# Altium integrated library Infineon_Transistor_&_Diode.IntLib: 376 symbols (part 9 of 10)
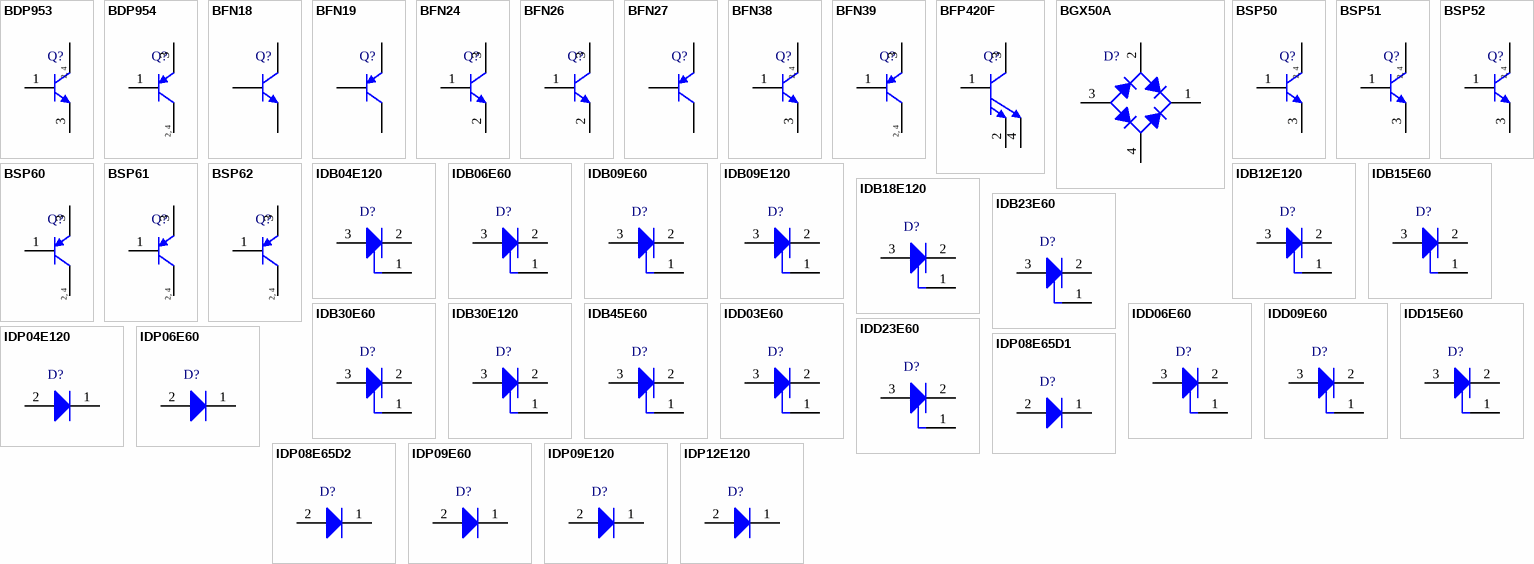
[diagram p18: symbols BDP953 to IDP12E120]

## BSP62
designator Q?
PNP Silicon Darlington Transistor, 80 V VCEO, 1000 mA IC, SOT223, Reel, Green; Manufacturer: Infineon; PartNumber: BSP62; fT (typ): 200 MHz; Green: TRUE; hFE (min): 1000; IC: 500 mA; IC (max): 1,000 mA; ICM (max): 2,000 mA; VCBO (max): 90 V; VCE: 10 V; VCEO (max): 80 V; VEBO (max): 5 V; PackageVersion: Apr-08; PackageReference: SOT223 (SC-73); PackageDescription: 4-Pin Small Outline Transistor Package, 6.5 x 3.5 mm Body, 2.3 mm Pitch; Packing: Reel; Polarity: PNP; Mounting Technology: Surface Mount; ComponentLink1Description: Manufacturer URL; ComponentLink1URL: http://www.infineon.com/; ComponentLink2Description: Datasheet; ComponentLink2URL: http://www.infineon.com/dgdl/bsp60_bsp61_bsp62.pdf?folderId=db3a30431441fb5d011445c30f210183&fileId=db3a30431441fb5d011445e1c2e7018a; ComponentLink3Description: Package Specification; ComponentLink3URL: http://www.infineon.com/dgdl/SOT223-Package_Overview.pdf?folderId=db3a30431936bc4b0119530470b03c3d&fileId=db3a30431936bc4b0119531d40b93c5c
footprint INF-SOT223_SC-73_N (SOT223, 4-Leads, Body 6.5x3.5mm, Pitch 2.3mm, IPC Medium Density)
footprint INF-SOT223_SC-73_L (SOT223, 4-Leads, Body 6.5x3.5mm, Pitch 2.3mm, IPC High Density)
footprint INF-SOT223_SC-73_M (SOT223, 4-Leads, Body 6.5x3.5mm, Pitch 2.3mm, IPC Low Density)
pins: 1 B, 2 C, 3 E, 4 C
text: 2, 4

## IDB04E120
designator D?
Fast Switching EmCon Diode, -55 to 150 degC, PG-TO263-3-2, Reel, Green; Manufacturer: Infineon; PartNumber: IDB04E120; Green: TRUE; Ptot (max): 43.1 W; DatasheetVersion: Rev. 2.2; PackageVersion: Rev. 01, 08/2007; PackageReference: PG-TO263-3-2; PackageDescription: 3-Pin Plastic (Green) Transistor Single Outline Package, 10.1 x 8.98 mm Body, 2.54 mm Pitch; Supplier 1: Mouser; Supplier Part Number 1: 726-IDB04E120; Halogen-free: FALSE; Mounting Technology: Surface Mount; ComponentLink1Description: Manufacturer URL; ComponentLink1URL: http://www.infineon.com/; ComponentLink2Description: Datasheet; ComponentLink2URL: http://www.infineon.com/dgdl/IDB04E120_rev2_2G.pdf?folderId=db3a304412b407950112b408e8c90004&fileId=db3a304412b407950112b43708566733; ComponentLink3Description: Package Specification; ComponentLink3URL: http://www.infineon.com/dgdl/SPB80P06P+G_Rev+1.6_.pdf?folderId=db3a304412b407950112b408e8c90004&fileId=db3a304412b407950112b42add964408
footprint INF-PG-TO263-3-2_A_N (DPAK, 3-Leads, Body 10.1x8.98mm, Pitch 2.54mm, IPC Medium Density)
footprint INF-PG-TO263-3-2_A_L (DPAK, 3-Leads, Body 10.1x8.98mm, Pitch 2.54mm, IPC High Density)
footprint INF-PG-TO263-3-2_A_M (DPAK, 3-Leads, Body 10.1x8.98mm, Pitch 2.54mm, IPC Low Density)
pins: 1 NC, 2 C, 3 A

## IDB06E60
designator D?
Fast Switching EmCon Diode, -55 to 175 degC, PG-TO263-3-2, Reel, Green; Manufacturer: Infineon; PartNumber: IDB06E60; Green: TRUE; Ptot (max): 46.9 W; DatasheetVersion: Rev. 2.2; PackageVersion: Rev. 01, 08/2007; PackageReference: PG-TO263-3-2; PackageDescription: 3-Pin Plastic (Green) Transistor Single Outline Package, 10.1 x 8.98 mm Body, 2.54 mm Pitch; Supplier 1: Mouser; Supplier Part Number 1: 726-IDB06E60; Halogen-free: FALSE; Mounting Technology: Surface Mount; ComponentLink1Description: Manufacturer URL; ComponentLink1URL: http://www.infineon.com/; ComponentLink2Description: Datasheet; ComponentLink2URL: http://www.infineon.com/dgdl/IDB06E60_rev2_2G.pdf?folderId=db3a304412b407950112b438bc9d6b83&fileId=db3a304412b407950112b438bd246b84; ComponentLink3Description: Package Specification; ComponentLink3URL: http://www.infineon.com/dgdl/SPB80P06P+G_Rev+1.6_.pdf?folderId=db3a304412b407950112b408e8c90004&fileId=db3a304412b407950112b42add964408
footprint INF-PG-TO263-3-2_A_N (DPAK, 3-Leads, Body 10.1x8.98mm, Pitch 2.54mm, IPC Medium Density)
footprint INF-PG-TO263-3-2_A_L (DPAK, 3-Leads, Body 10.1x8.98mm, Pitch 2.54mm, IPC High Density)
footprint INF-PG-TO263-3-2_A_M (DPAK, 3-Leads, Body 10.1x8.98mm, Pitch 2.54mm, IPC Low Density)
pins: 1 NC, 2 C, 3 A

## IDB09E60
designator D?
Fast Switching EmCon Diode, -55 to 175 degC, PG-TO263-3-2, Reel, Green; Manufacturer: Infineon; PartNumber: IDB09E60; Green: TRUE; IF (max): 19.3 A; IF (typ): 9 A; IF,SM (max): 40 A; IR (max): 50 uA; Irrm (typ): 10.2 A; Ptot (max): 57.7 W; Qrr (typ): 343 nC; RthJC (max): 2.6 K/W; Trr (typ): 75 ns; VF (typ): 1.5 V; DatasheetVersion: Rev. 2.2; PackageVersion: Rev. 01, 08/2007; PackageReference: PG-TO263-3-2; PackageDescription: 3-Pin Plastic (Green) Transistor Single Outline Package, 10.1 x 8.98 mm Body, 2.54 mm Pitch; Supplier 1: Mouser; Supplier Part Number 1: 726-IDB09E60; Supplier 2: Digi-Key; Supplier Part Number 2: IDB09E60-ND; Halogen-free: TRUE; Packing: Reel; Mounting Technology: Surface Mount; ComponentLink1Description: Manufacturer URL; ComponentLink1URL: http://www.infineon.com/; ComponentLink2Description: Datasheet; ComponentLink2URL: http://www.infineon.com/dgdl/IDB09E60_rev2_2G.pdf?folderId=db3a304412b407950112b438c1916b8d&fileId=db3a304412b407950112b438c2196b8e; ComponentLink3Description: Package Specification; ComponentLink3URL: http://www.infineon.com/dgdl/SPB80P06P+G_Rev+1.6_.pdf?folderId=db3a304412b407950112b408e8c90004&fileId=db3a304412b407950112b42add964408
footprint INF-PG-TO263-3-2_A_N (DPAK, 3-Leads, Body 10.1x8.98mm, Pitch 2.54mm, IPC Medium Density)
footprint INF-PG-TO263-3-2_A_L (DPAK, 3-Leads, Body 10.1x8.98mm, Pitch 2.54mm, IPC High Density)
footprint INF-PG-TO263-3-2_A_M (DPAK, 3-Leads, Body 10.1x8.98mm, Pitch 2.54mm, IPC Low Density)
pins: 1 NC, 2 K, 3 A

## IDB09E120
designator D?
Fast Switching EmCon Diode, -55 to 150 degC, PG-TO263-3-2, Reel, Green; Manufacturer: Infineon; PartNumber: IDB09E120; Green: TRUE; Ptot (max): 69 W; DatasheetVersion: Rev. 2.2; PackageVersion: Rev. 01, 08/2007; PackageReference: PG-TO263-3-2; PackageDescription: 3-Pin Plastic (Green) Transistor Single Outline Package, 10.1 x 8.98 mm Body, 2.54 mm Pitch; Supplier 1: Mouser; Supplier Part Number 1: 726-IDB09E120; Halogen-free: FALSE; Mounting Technology: Surface Mount; ComponentLink1Description: Manufacturer URL; ComponentLink1URL: http://www.infineon.com/; ComponentLink2Description: Datasheet; ComponentLink2URL: http://www.infineon.com/dgdl/IDB09E120_rev2_2G.pdf?folderId=db3a304412b407950112b43716fe6750&fileId=db3a304412b407950112b437177f6751; ComponentLink3Description: Package Specification; ComponentLink3URL: http://www.infineon.com/dgdl/SPB80P06P+G_Rev+1.6_.pdf?folderId=db3a304412b407950112b408e8c90004&fileId=db3a304412b407950112b42add964408
footprint INF-PG-TO263-3-2_A_N (DPAK, 3-Leads, Body 10.1x8.98mm, Pitch 2.54mm, IPC Medium Density)
footprint INF-PG-TO263-3-2_A_L (DPAK, 3-Leads, Body 10.1x8.98mm, Pitch 2.54mm, IPC High Density)
footprint INF-PG-TO263-3-2_A_M (DPAK, 3-Leads, Body 10.1x8.98mm, Pitch 2.54mm, IPC Low Density)
pins: 1 NC, 2 C, 3 A

## IDB12E120
designator D?
Fast Switching EmCon Diode, -55 to 150 degC, PG-TO263-3, Reel, Green; Manufacturer: Infineon; PartNumber: IDB12E120; Green: TRUE; IF (max): 28 A; IF (typ): 12 A; IF,SM (max): 63 A; IR (max): 100 uA; Irrm (typ): 17 A; Ptot (max): 96 W; Qrr (typ): 1,200 nC; RthJC (max): 1.3 K/W; Trr (typ): 150 ns; VF (typ): 1.65 V; DatasheetVersion: Rev. 2.2; PackageVersion: Rev. 01, 08/2007; PackageReference: PG-TO263-3-2; PackageDescription: 3-Pin Plastic (Green) Transistor Single Outline Package, 10.1 x 8.98 mm Body, 2.54 mm Pitch; Supplier 1: Mouser; Supplier Part Number 1: 726-IDB12E120; Supplier 2: Digi-Key; Supplier Part Number 2: IDB12E120-ND; Halogen-free: TRUE; Packing: Reel; Mounting Technology: Surface Mount; ComponentLink1Description: Manufacturer URL; ComponentLink1URL: http://www.infineon.com/; ComponentLink2Description: Datasheet; ComponentLink2URL: http://www.infineon.com/dgdl/IDB12E120_rev2_2G.pdf?folderId=db3a304412b407950112b43710066741&fileId=db3a304412b407950112b43710876742; ComponentLink3Description: Package Specification; ComponentLink3URL: http://www.infineon.com/dgdl/SPB80P06P+G_Rev+1.6_.pdf?folderId=db3a304412b407950112b408e8c90004&fileId=db3a304412b407950112b42add964408
footprint INF-PG-TO263-3-2_A_N (DPAK, 3-Leads, Body 10.1x8.98mm, Pitch 2.54mm, IPC Medium Density)
footprint INF-PG-TO263-3-2_A_L (DPAK, 3-Leads, Body 10.1x8.98mm, Pitch 2.54mm, IPC High Density)
footprint INF-PG-TO263-3-2_A_M (DPAK, 3-Leads, Body 10.1x8.98mm, Pitch 2.54mm, IPC Low Density)
pins: 1 NC, 2 K, 3 A

## IDB15E60
designator D?
Fast Switching EmCon Diode, -55 to 175 degC, PG-TO263-3-2, Reel, Green; Manufacturer: Infineon; PartNumber: IDB15E60; Green: TRUE; IF (max): 29.2 A; IF (typ): 15 A; IF,SM (max): 60 A; IR (max): 50 uA; Irrm (typ): 13.7 A; Ptot (max): 83.3 W; Qrr (typ): 595 nC; RthJC (max): 1.8 K/W; Trr (typ): 87 ns; VF (typ): 1.5 V; DatasheetVersion: Rev. 2.2; PackageVersion: Rev. 01, 08/2007; PackageReference: PG-TO263-3-2; PackageDescription: 3-Pin Plastic (Green) Transistor Single Outline Package, 10.1 x 8.98 mm Body, 2.54 mm Pitch; Supplier 1: Mouser; Supplier Part Number 1: 726-IDB15E60; Supplier 2: Digi-Key; Supplier Part Number 2: IDB15E60-ND; Halogen-free: TRUE; Packing: Reel; Mounting Technology: Surface Mount; ComponentLink1Description: Manufacturer URL; ComponentLink1URL: http://www.infineon.com/; ComponentLink2Description: Datasheet; ComponentLink2URL: http://www.infineon.com/dgdl/IDB15E60_rev2_2G.pdf?folderId=db3a304412b407950112b438c7396b97&fileId=db3a304412b407950112b438c7b86b98; ComponentLink3Description: Package Specification; ComponentLink3URL: http://www.infineon.com/dgdl/SPB80P06P+G_Rev+1.6_.pdf?folderId=db3a304412b407950112b408e8c90004&fileId=db3a304412b407950112b42add964408
footprint INF-PG-TO263-3-2_A_N (DPAK, 3-Leads, Body 10.1x8.98mm, Pitch 2.54mm, IPC Medium Density)
footprint INF-PG-TO263-3-2_A_L (DPAK, 3-Leads, Body 10.1x8.98mm, Pitch 2.54mm, IPC High Density)
footprint INF-PG-TO263-3-2_A_M (DPAK, 3-Leads, Body 10.1x8.98mm, Pitch 2.54mm, IPC Low Density)
pins: 1 NC, 2 K, 3 A

## IDB18E120
designator D?
Fast Switching EmCon Diode, -55 to 150 degC, PG-TO263-3-2, Reel, Green; Manufacturer: Infineon; PartNumber: IDB18E120; IF (max): 31 A; IF (typ): 18 A; IF,SM (max): 78 A; IR (max): 100 uA; Irrm (typ): 20.2 A; Ptot (max): 113 W; Qrr (typ): 1,880 nC; RthJC (max): 1.1 K/W; Trr (typ): 195 ns; VF (typ): 1.65 V; DatasheetVersion: Rev. 2.2; PackageVersion: Rev. 01, 08/2007; PackageReference: PG-TO263-3-2; PackageDescription: 3-Pin Plastic (Green) Transistor Single Outline Package, 10.1 x 8.98 mm Body, 2.54 mm Pitch; Supplier 1: Mouser; Supplier Part Number 1: 726-IDB18E120; Supplier 2: Digi-Key; Supplier Part Number 2: IDB18E120-ND; Packing: Reel; Mounting Technology: Surface Mount; ComponentLink1Description: Manufacturer URL; ComponentLink1URL: http://www.infineon.com/; ComponentLink2Description: Datasheet; ComponentLink2URL: http://www.infineon.com/dgdl/IDB18E120_rev2_2G.pdf?folderId=db3a304412b407950112b437eb85698c&fileId=db3a304412b407950112b437ec0a698d; ComponentLink3Description: Package Specification; ComponentLink3URL: http://www.infineon.com/dgdl/SPB80P06P+G_Rev+1.6_.pdf?folderId=db3a304412b407950112b408e8c90004&fileId=db3a304412b407950112b42add964408
footprint INF-PG-TO263-3-2_A_N (DPAK, 3-Leads, Body 10.1x8.98mm, Pitch 2.54mm, IPC Medium Density)
footprint INF-PG-TO263-3-2_A_L (DPAK, 3-Leads, Body 10.1x8.98mm, Pitch 2.54mm, IPC High Density)
footprint INF-PG-TO263-3-2_A_M (DPAK, 3-Leads, Body 10.1x8.98mm, Pitch 2.54mm, IPC Low Density)
pins: 1 NC, 2 K, 3 A

## IDB23E60
designator D?
Fast Switching EmCon Diode, -55 to 175 degC, PG-TO263-3-2, Reel, Green; Manufacturer: Infineon; PartNumber: IDB23E60; Green: TRUE; IF (max): 41 A; IF (typ): 23 A; IF,SM (max): 89 A; IR (max): 50 uA; Irrm (typ): 17 A; Ptot (max): 115 W; Qrr (typ): 970 nC; RthJC (max): 1.3 K/W; Trr (typ): 120 ns; VF (typ): 1.5 V; DatasheetVersion: Rev. 2.2; PackageVersion: Rev. 01, 08/2007; PackageReference: PG-TO263-3-2; PackageDescription: 3-Pin Plastic (Green) Transistor Single Outline Package, 10.1 x 8.98 mm Body, 2.54 mm Pitch; Supplier 1: Digi-Key; Supplier Part Number 1: IDB23E60-ND; Packing: Reel; Mounting Technology: Surface Mount; ComponentLink1Description: Manufacturer URL; ComponentLink1URL: http://www.infineon.com/; ComponentLink2Description: Datasheet; ComponentLink2URL: http://www.infineon.com/dgdl/IDB23E60_rev2_2G.pdf?folderId=db3a304412b407950112b438cc146ba1&fileId=db3a304412b407950112b438cc9e6ba2; ComponentLink3Description: Package Specification; ComponentLink3URL: http://www.infineon.com/dgdl/SPB80P06P+G_Rev+1.6_.pdf?folderId=db3a304412b407950112b408e8c90004&fileId=db3a304412b407950112b42add964408
footprint INF-PG-TO263-3-2_A_N (DPAK, 3-Leads, Body 10.1x8.98mm, Pitch 2.54mm, IPC Medium Density)
footprint INF-PG-TO263-3-2_A_L (DPAK, 3-Leads, Body 10.1x8.98mm, Pitch 2.54mm, IPC High Density)
footprint INF-PG-TO263-3-2_A_M (DPAK, 3-Leads, Body 10.1x8.98mm, Pitch 2.54mm, IPC Low Density)
pins: 1 NC, 2 K, 3 A

## IDB30E60
designator D?
Fast Switching EmCon Diode, -55 to 175 degC, PG-TO263-3, Reel, Green; Manufacturer: Infineon; PartNumber: IDB30E60; Green: TRUE; IF (max): 52.3 A; IF (typ): 30 A; IF,SM (max): 117 A; IR (max): 50 uA; Irrm (typ): 19 A; Ptot (max): 142.9 W; Qrr (typ): 1,100 nC; RthJC (max): 15 K/W; Trr (typ): 126 ns; VF (typ): 1.5 V; DatasheetVersion: Rev. 2.2; PackageVersion: Rev. 01, 08/2007; PackageReference: PG-TO263-3-2; PackageDescription: 3-Pin Plastic (Green) Transistor Single Outline Package, 10.1 x 8.98 mm Body, 2.54 mm Pitch; Supplier 1: Mouser; Supplier Part Number 1: 726-IDB30E60; Supplier 2: Digi-Key; Supplier Part Number 2: IDB30E60-ND; Halogen-free: TRUE; Packing: Reel; Mounting Technology: Surface Mount; ComponentLink1Description: Manufacturer URL; ComponentLink1URL: http://www.infineon.com/; ComponentLink2Description: Datasheet; ComponentLink2URL: http://www.infineon.com/dgdl/IDB30E60_rev2_2G.pdf?folderId=db3a304412b407950112b438d1176bab&fileId=db3a304412b407950112b438d1a06bac; ComponentLink3Description: Package Specification; ComponentLink3URL: http://www.infineon.com/dgdl/SPB80P06P+G_Rev+1.6_.pdf?folderId=db3a304412b407950112b408e8c90004&fileId=db3a304412b407950112b42add964408
footprint INF-PG-TO263-3-2_A_N (DPAK, 3-Leads, Body 10.1x8.98mm, Pitch 2.54mm, IPC Medium Density)
footprint INF-PG-TO263-3-2_A_L (DPAK, 3-Leads, Body 10.1x8.98mm, Pitch 2.54mm, IPC High Density)
footprint INF-PG-TO263-3-2_A_M (DPAK, 3-Leads, Body 10.1x8.98mm, Pitch 2.54mm, IPC Low Density)
pins: 1 NC, 2 K, 3 A

## IDB30E120
designator D?
Fast Switching EmCon Diode, -55 to 150 degC, PG-TO263-3-2, Reel, Green; Manufacturer: Infineon; PartNumber: IDB30E120; Green: TRUE; IF (max): 50 A; IF (typ): 30 A; IF,SM (max): 102 A; IR (max): 100 uA; Irrm (typ): 23.7 A; Ptot (max): 138 W; Qrr (typ): 2,630 nC; RthJC (max): 0.9 K/W; Trr (typ): 243 ns; VF (typ): 1.65 V; DatasheetVersion: Rev. 2.2; PackageVersion: Rev. 01, 08/2007; PackageReference: PG-TO263-3-2; PackageDescription: 3-Pin Plastic (Green) Transistor Single Outline Package, 10.1 x 8.98 mm Body, 2.54 mm Pitch; Supplier 1: Mouser; Supplier Part Number 1: 726-IDB30E120; Supplier 2: Newark; Supplier Part Number 2: 47W3447; Supplier 3: Farnell; Supplier Part Number 3: 2212799; Supplier 4: Digi-Key; Supplier Part Number 4: IDB30E120-ND; Halogen-free: TRUE; Packing: Reel; Mounting Technology: Surface Mount; ComponentLink1Description: Manufacturer URL; ComponentLink1URL: http://www.infineon.com/; ComponentLink2Description: Datasheet; ComponentLink2URL: http://www.infineon.com/dgdl/IDB30E120_rev2_2G.pdf?folderId=db3a304412b407950112b43712366746&fileId=db3a304412b407950112b43712b86747; ComponentLink3Description: Package Specification; ComponentLink3URL: http://www.infineon.com/dgdl/SPB80P06P+G_Rev+1.6_.pdf?folderId=db3a304412b407950112b408e8c90004&fileId=db3a304412b407950112b42add964408
footprint INF-PG-TO263-3-2_A_N (DPAK, 3-Leads, Body 10.1x8.98mm, Pitch 2.54mm, IPC Medium Density)
footprint INF-PG-TO263-3-2_A_L (DPAK, 3-Leads, Body 10.1x8.98mm, Pitch 2.54mm, IPC High Density)
footprint INF-PG-TO263-3-2_A_M (DPAK, 3-Leads, Body 10.1x8.98mm, Pitch 2.54mm, IPC Low Density)
pins: 1 NC, 2 K, 3 A

## IDB45E60
designator D?
Fast Switching EmCon Diode, -55 to 175 degC, PG-TO263-3-2, Reel, Green; Manufacturer: Infineon; PartNumber: IDB45E60; Green: TRUE; IF (max): 71 A; IF (typ): 45 A; IF,SM (max): 162 A; IR (max): 50 uA; Irrm (typ): 23 A; Ptot (max): 187 W; Qrr (typ): 1,400 nC; RthJC (max): 0.8 K/W; Trr (typ): 140 ns; VF (typ): 1.5 V; DatasheetVersion: Rev. 2.2; PackageVersion: Rev. 01, 08/2007; PackageReference: PG-TO263-3-2; PackageDescription: 3-Pin Plastic (Green) Transistor Single Outline Package, 10.1 x 8.98 mm Body, 2.54 mm Pitch; Supplier 1: Mouser; Supplier Part Number 1: 726-IDB45E60; Supplier 2: Digi-Key; Supplier Part Number 2: IDB45E60-ND; Halogen-free: TRUE; Packing: Reel; Mounting Technology: Surface Mount; ComponentLink1Description: Manufacturer URL; ComponentLink1URL: http://www.infineon.com/; ComponentLink2Description: Datasheet; ComponentLink2URL: http://www.infineon.com/dgdl/IDB45E60_rev2_2G.pdf?folderId=db3a304412b407950112b438d6086bb5&fileId=db3a304412b407950112b438d6916bb6; ComponentLink3Description: Package Specification; ComponentLink3URL: http://www.infineon.com/dgdl/SPB80P06P+G_Rev+1.6_.pdf?folderId=db3a304412b407950112b408e8c90004&fileId=db3a304412b407950112b42add964408
footprint INF-PG-TO263-3-2_A_N (DPAK, 3-Leads, Body 10.1x8.98mm, Pitch 2.54mm, IPC Medium Density)
footprint INF-PG-TO263-3-2_A_L (DPAK, 3-Leads, Body 10.1x8.98mm, Pitch 2.54mm, IPC High Density)
footprint INF-PG-TO263-3-2_A_M (DPAK, 3-Leads, Body 10.1x8.98mm, Pitch 2.54mm, IPC Low Density)
pins: 1 NC, 2 K, 3 A

## IDD03E60
designator D?
Fast Switching EmCon Diode, -55 to 175 degC, PG-TO252-3-1, Reel, Green; Manufacturer: Infineon; PartNumber: IDD03E60; Green: TRUE; IF (max): 7.3 A; IF (typ): 3 A; IF,SM (max): 16 A; IR (max): 50 uA; Irrm (typ): 3.8 A; Ptot (max): 23 W; Qrr (typ): 118 nC; RthJC (max): 6.5 K/W; Trr (typ): 62 ns; VF (typ): 1.5 V; DatasheetVersion: Rev. 2.2; PackageVersion: Rev. 2.2, 04/2007; PackageReference: PG-TO252-3-1_A; PackageDescription: 3-Pin Plastic (Green) Transistor Single Outline Package, Body 6.565 x 6.1 mm, Pitch 2.28 mm; Supplier 1: Mouser; Supplier Part Number 1: 726-IDD03E60; Supplier 2: Digi-Key; Supplier Part Number 2: IDD03E60-ND; Packing: Reel; Mounting Technology: Surface Mount; ComponentLink1Description: Manufacturer URL; ComponentLink1URL: http://www.infineon.com/; ComponentLink2Description: Datasheet; ComponentLink2URL: http://www.infineon.com/dgdl/IDD03E60Grev2_2.pdf?folderId=db3a304412b407950112b438b4176b74&fileId=db3a304412b407950112b438b49f6b75; ComponentLink3Description: Package Specification; ComponentLink3URL: http://www.infineon.com/dgdl/IDD03E60Grev2_2.pdf?folderId=db3a304412b407950112b438b4176b74&fileId=db3a304412b407950112b438b49f6b75
footprint INF-PG-TO252-3-1_A_N (DPAK, 3-Leads, Body 6.565x6.1mm, Pitch 2.28mm, IPC Medium Density)
footprint INF-PG-TO252-3-1_A_L (DPAK, 3-Leads, Body 6.565x6.1mm, Pitch 2.28mm, IPC High Density)
footprint INF-PG-TO252-3-1_A_M (DPAK, 3-Leads, Body 6.565x6.1mm, Pitch 2.28mm, IPC Low Density)
pins: 1 NC, 2 K, 3 A

## IDD06E60
designator D?
Fast Switching EmCon Diode, -55 to 175 degC, PG-TO252-3-1, Reel, Green; Manufacturer: Infineon; PartNumber: IDD06E60; Green: TRUE; IF (max): 14.7 A; IF (typ): 6 A; IF,SM (max): 29 A; IR (max): 50 uA; Irrm (typ): 6.5 A; Ptot (max): 46.8 W; Qrr (typ): 240 nC; RthJC (max): 3.2 K/W; Trr (typ): 70 ns; VF (typ): 1.5 V; DatasheetVersion: Rev. 2.2; PackageVersion: Rev. 2.2, 04/2007; PackageReference: PG-TO252-3-1_A; PackageDescription: 3-Pin Plastic (Green) Transistor Single Outline Package, Body 6.565 x 6.1 mm, Pitch 2.28 mm; Supplier 1: Mouser; Supplier Part Number 1: 726-IDD06E60; Supplier 2: Digi-Key; Supplier Part Number 2: IDD06E60-ND; Packing: Reel; Mounting Technology: Surface Mount; ComponentLink1Description: Manufacturer URL; ComponentLink1URL: http://www.infineon.com/; ComponentLink2Description: Datasheet; ComponentLink2URL: http://www.infineon.com/dgdl/IDD06e60Grev2_2.pdf?folderId=db3a304412b407950112b408e8c90004&fileId=db3a304412b407950112b438e5fa6bc6; ComponentLink3Description: Package Specification; ComponentLink3URL: http://www.infineon.com/dgdl/IDD03E60Grev2_2.pdf?folderId=db3a304412b407950112b438b4176b74&fileId=db3a304412b407950112b438b49f6b75
footprint INF-PG-TO252-3-1_A_N (DPAK, 3-Leads, Body 6.565x6.1mm, Pitch 2.28mm, IPC Medium Density)
footprint INF-PG-TO252-3-1_A_L (DPAK, 3-Leads, Body 6.565x6.1mm, Pitch 2.28mm, IPC High Density)
footprint INF-PG-TO252-3-1_A_M (DPAK, 3-Leads, Body 6.565x6.1mm, Pitch 2.28mm, IPC Low Density)
pins: 1 NC, 2 K, 3 A

## IDD09E60
designator D?
Fast Switching EmCon Diode, -55 to 175 degC, PG-TO252-3-1, Reel, Green; Manufacturer: Infineon; PartNumber: IDD09E60; Green: TRUE; IF (max): 19.3 A; IF (typ): 9 A; IF,SM (max): 40 A; IR (max): 50 uA; Irrm (typ): 10.2 A; Ptot (max): 57.7 W; Qrr (typ): 343 nC; RthJC (max): 2.6 K/W; Trr (typ): 75 ns; VF (typ): 1.5 V; DatasheetVersion: Rev. 2.2; PackageVersion: Rev. 2.2, 04/2007; PackageReference: PG-TO252-3-1_A; PackageDescription: 3-Pin Plastic (Green) Transistor Single Outline Package, Body 6.565 x 6.1 mm, Pitch 2.28 mm; Supplier 1: Mouser; Supplier Part Number 1: 726-IDD09E60; Supplier 2: Digi-Key; Supplier Part Number 2: IDD09E60-ND; Packing: Reel; Mounting Technology: Surface Mount; ComponentLink1Description: Manufacturer URL; ComponentLink1URL: http://www.infineon.com/; ComponentLink2Description: Datasheet; ComponentLink2URL: http://www.infineon.com/dgdl/IDD09e60Grev2_2.pdf?folderId=db3a304412b407950112b438b6e36b79&fileId=db3a304412b407950112b438b76c6b7a; ComponentLink3Description: Package Specification; ComponentLink3URL: http://www.infineon.com/dgdl/IDD03E60Grev2_2.pdf?folderId=db3a304412b407950112b438b4176b74&fileId=db3a304412b407950112b438b49f6b75
footprint INF-PG-TO252-3-1_A_N (DPAK, 3-Leads, Body 6.565x6.1mm, Pitch 2.28mm, IPC Medium Density)
footprint INF-PG-TO252-3-1_A_L (DPAK, 3-Leads, Body 6.565x6.1mm, Pitch 2.28mm, IPC High Density)
footprint INF-PG-TO252-3-1_A_M (DPAK, 3-Leads, Body 6.565x6.1mm, Pitch 2.28mm, IPC Low Density)
pins: 1 NC, 2 K, 3 A

## IDD15E60
designator D?
Fast Switching EmCon Diode, -55 to 175 degC, PG-TO252-3-1, Reel, Green; Manufacturer: Infineon; PartNumber: IDD15E60; Green: TRUE; IF (max): 29.2 A; IF (typ): 15 A; IF,SM (max): 60 A; IR (max): 50 uA; Irrm (typ): 13.7 A; Ptot (max): 83.3 W; Qrr (typ): 595 nC; RthJC (max): 1.8 K/W; Trr (typ): 87 ns; VF (typ): 1.5 V; DatasheetVersion: Rev. 2.2; PackageVersion: Rev. 2.2, 04/2007; PackageReference: PG-TO252-3-1_A; PackageDescription: 3-Pin Plastic (Green) Transistor Single Outline Package, Body 6.565 x 6.1 mm, Pitch 2.28 mm; Supplier 1: Mouser; Supplier Part Number 1: 726-IDD15E60; Supplier 2: Digi-Key; Supplier Part Number 2: IDD15E60-ND; Packing: Reel; Mounting Technology: Surface Mount; ComponentLink1Description: Manufacturer URL; ComponentLink1URL: http://www.infineon.com/; ComponentLink2Description: Datasheet; ComponentLink2URL: http://www.infineon.com/dgdl/IDD15e60Grev2_2.pdf?folderId=db3a304412b407950112b408e8c90004&fileId=db3a304412b407950112b438e9ab6bca; ComponentLink3Description: Package Specification; ComponentLink3URL: http://www.infineon.com/dgdl/IDD03E60Grev2_2.pdf?folderId=db3a304412b407950112b438b4176b74&fileId=db3a304412b407950112b438b49f6b75
footprint INF-PG-TO252-3-1_A_N (DPAK, 3-Leads, Body 6.565x6.1mm, Pitch 2.28mm, IPC Medium Density)
footprint INF-PG-TO252-3-1_A_L (DPAK, 3-Leads, Body 6.565x6.1mm, Pitch 2.28mm, IPC High Density)
footprint INF-PG-TO252-3-1_A_M (DPAK, 3-Leads, Body 6.565x6.1mm, Pitch 2.28mm, IPC Low Density)
pins: 1 NC, 2 K, 3 A

## IDD23E60
designator D?
Fast Switching EmCon Diode, -55 to 175 degC, PG-TO252-3, Reel, Green; Manufacturer: Infineon; PartNumber: IDD23E60; Green: TRUE; Ptot (max): 115.4 W; DatasheetVersion: Rev. 2.2; PackageVersion: Apr-07; PackageReference: PG-TO252-3; PackageDescription: 3-Pin Plastic (Green) Transistor Single Outline Package, 6.565 x 6.1 mm Body, 2.28 mm Pitch; Supplier 1: Mouser; Supplier Part Number 1: N/A; Halogen-free: FALSE; Mounting Technology: Surface Mount; ComponentLink1Description: Manufacturer URL; ComponentLink1URL: http://www.infineon.com/; ComponentLink2Description: Datasheet; ComponentLink2URL: http://www.infineon.com/dgdl/IDD23e60Grev2_2.pdf?folderId=db3a304412b407950112b408e8c90004&fileId=db3a304412b407950112b438e1df6bc2; ComponentLink3Description: Package Specification; ComponentLink3URL: http://www.infineon.com/dgdl/IDD23e60Grev2_2.pdf?folderId=db3a304412b407950112b408e8c90004&fileId=db3a304412b407950112b438e1df6bc2
footprint INF-PG-TO252-3_B_N (DPAK, 3-Leads, Body 6.565x6.1mm, Pitch 2.28mm, IPC Medium Density)
footprint INF-PG-TO252-3_B_L (DPAK, 3-Leads, Body 6.565x6.1mm, Pitch 2.28mm, IPC High Density)
footprint INF-PG-TO252-3_B_M (DPAK, 3-Leads, Body 6.565x6.1mm, Pitch 2.28mm, IPC Low Density)
pins: 1 NC, 2 C, 3 A

## IDP04E120
designator D?
Fast Switching Diode, -55 to 150 degC, PG-TO220-2-1, Tube, Green; Manufacturer: Infineon; PartNumber: IDP04E120; Green: TRUE; IF (max): 11.2 A; IF (typ): 4 A; IF,SM (max): 28 A; IR (max): 100 uA; Irrm (typ): 7.15 A; Ptot (max): 43.1 W; Qrr (typ): 330 nC; RthJC (max): 2.9 K/W; Trr (typ): 115 ns; VF (typ): 1.65 V; DatasheetVersion: Rev. 2.3; PackageVersion: Rev. 01, 10/2008; PackageReference: PG-TO220-2-1; PackageDescription: 2-Pin Plastic (Green) Transistor Single Outline Package, Body 9.25 x 10 mm, Pitch 5.08 mm; Supplier 1: Mouser; Supplier Part Number 1: 726-IDP04E120; Supplier 2: Digi-Key; Supplier Part Number 2: IDP04E120-ND; Halogen-free: TRUE; Packing: Tube; Mounting Technology: Through Hole; ComponentLink1Description: Manufacturer URL; ComponentLink1URL: http://www.infineon.com/; ComponentLink2Description: Datasheet; ComponentLink2URL: http://www.infineon.com/dgdl/IDP04E120_v2_3G%5B1%5D.pdf?folderId=db3a304314dca38901151224afae0c96&fileId=db3a30432313ff5e01237a627ecb7bfd; ComponentLink3Description: Package Specification; ComponentLink3URL: http://www.infineon.com/dgdl/IDP09E120_v2_3G%5B1%5D.pdf?folderId=db3a304314dca38901151224afae0c96&fileId=db3a30432313ff5e01237a7d849d7c11
footprint INF-PG-TO220-2-1 (FM, 2-Leads, Body 10x4.4mm, Pitch 5.08mm)
pins: 1 K, 2 A

## IDP06E60
designator D?
Fast Switching Diode, -55 to 175 degC, PG-TO220-2, Tube, Green; Manufacturer: Infineon; PartNumber: IDP06E60; Green: TRUE; IF (max): 14.7 A; IF (typ): 6 A; IF,SM (max): 29 A; IR (max): 50 uA; Irrm (typ): 6.5 A; Ptot (max): 46.9 W; Qrr (typ): 240 nC; RthJC (max): 3.2 K/W; Trr (typ): 70 ns; VF (typ): 1.5 V; DatasheetVersion: Rev. 2.4; PackageVersion: Rev. 01, 10/2008; PackageReference: PG-TO220-2-1; PackageDescription: 2-Pin Plastic (Green) Transistor Single Outline Package, Body 9.25 x 10 mm, Pitch 5.08 mm; Supplier 1: Mouser; Supplier Part Number 1: 726-IDP06E60; Supplier 2: Digi-Key; Supplier Part Number 2: IDP06E60-ND; Halogen-free: TRUE; Packing: Tube; Mounting Technology: Through Hole; ComponentLink1Description: Manufacturer URL; ComponentLink1URL: http://www.infineon.com/; ComponentLink2Description: Datasheet; ComponentLink2URL: http://www.infineon.com/dgdl/IDP06E60_rev2_4G.pdf?folderId=db3a304314dca38901151224afae0c96&fileId=db3a30432313ff5e01237a0353657ba8; ComponentLink3Description: Package Specification; ComponentLink3URL: http://www.infineon.com/dgdl/IDP09E120_v2_3G%5B1%5D.pdf?folderId=db3a304314dca38901151224afae0c96&fileId=db3a30432313ff5e01237a7d849d7c11
footprint INF-PG-TO220-2-1 (FM, 2-Leads, Body 10x4.4mm, Pitch 5.08mm)
pins: 1 K, 2 A

## IDP08E65D1
designator D?
Rapid Switching Emitter Controlled Diode, -40 to 175 degC, PG-TO220-2-1, Tube, Green; Manufacturer: Infineon; PartNumber: IDP08E65D1; Green: TRUE; IF (typ): 8 A; IF,SM (max): 64 A; IR (max): 40 uA; Irrm (typ): 2.8 A; Ptot (max): 56 W; Qrr (typ): 0.17 uC; RthJC (max): 2.69 K/W; Trr (typ): 80 ns; VF (typ): 1.35 V; DatasheetVersion: Rev. 1.1; PackageVersion: Rev. 01, 10/2008; PackageReference: PG-TO220-2-1; PackageDescription: 2-Pin Plastic (Green) Transistor Single Outline Package, Body 9.25 x 10 mm, Pitch 5.08 mm; Supplier 1: Newark; Supplier Part Number 1: 33X0386; Supplier 2: Farnell; Supplier Part Number 2: 2363262; Halogen-free: TRUE; Packing: Tube; Mounting Technology: Through Hole; ComponentLink1Description: Manufacturer URL; ComponentLink1URL: http://www.infineon.com/; ComponentLink2Description: Datasheet; ComponentLink2URL: http://www.infineon.com/dgdl/IDP08E65D1_1_1.pdf?folderId=db3a304314dca38901151224afae0c96&fileId=db3a30433d6895c8013d68d2c3c80025; ComponentLink3Description: Package Specification; ComponentLink3URL: http://www.infineon.com/dgdl/IDP09E120_v2_3G%5B1%5D.pdf?folderId=db3a304314dca38901151224afae0c96&fileId=db3a30432313ff5e01237a7d849d7c11
footprint INF-PG-TO220-2-1 (FM, 2-Leads, Body 10x4.4mm, Pitch 5.08mm)
pins: 1 K, 2 A

## IDP08E65D2
designator D?
Rapid Switching Emitter Controlled Diode, -40 to 175 degC, PG-TO220-2-1, Tube, Green; Manufacturer: Infineon; PartNumber: IDP08E65D2; Green: TRUE; IF (typ): 8 A; IF,SM (max): 60 A; IR (max): 40 uA; Irrm (typ): 2.5 A; Ptot (max): 56 W; Qrr (typ): 0.08 uC; RthJC (max): 2.69 K/W; Trr (typ): 40 ns; VF (typ): 1.6 V; DatasheetVersion: Rev. 1.1; PackageVersion: Rev. 01, 10/2008; PackageReference: PG-TO220-2-1; PackageDescription: 2-Pin Plastic (Green) Transistor Single Outline Package, Body 9.25 x 10 mm, Pitch 5.08 mm; Supplier 1: Newark; Supplier Part Number 1: 33X0387; Supplier 2: Farnell; Supplier Part Number 2: 2363263; Halogen-free: TRUE; Packing: Tube; Mounting Technology: Through Hole; ComponentLink1Description: Manufacturer URL; ComponentLink1URL: http://www.infineon.com/; ComponentLink2Description: Datasheet; ComponentLink2URL: http://www.infineon.com/dgdl/DS_IDP08E65D2_1_1+%282%29.pdf?folderId=db3a304314dca38901151224afae0c96&fileId=db3a30433d68e984013d6944ca9a05e0; ComponentLink3Description: Package Specification; ComponentLink3URL: http://www.infineon.com/dgdl/IDP09E120_v2_3G%5B1%5D.pdf?folderId=db3a304314dca38901151224afae0c96&fileId=db3a30432313ff5e01237a7d849d7c11
footprint INF-PG-TO220-2-1 (FM, 2-Leads, Body 10x4.4mm, Pitch 5.08mm)
pins: 1 K, 2 A

## IDP09E60
designator D?
Fast Switching Diode, -55 to 175 degC, PG-TO220-2-1, Tube, Green; Manufacturer: Infineon; PartNumber: IDP09E60; Green: TRUE; Ptot (max): 57.7 W; DatasheetVersion: Rev. 2.4; PackageVersion: Rev. 01, 10/2008; PackageReference: PG-TO220-2-1; PackageDescription: 2-Pin Plastic (Green) Transistor Single Outline Package, Body 9.25 x 10 mm, Pitch 5.08 mm; Supplier 1: Mouser; Supplier Part Number 1: 726-IDP09E60; Halogen-free: FALSE; Mounting Technology: Through Hole; ComponentLink1Description: Manufacturer URL; ComponentLink1URL: http://www.infineon.com/; ComponentLink2Description: Datasheet; ComponentLink2URL: http://www.infineon.com/dgdl/IDP09E60_rev2_4G.pdf?folderId=db3a304412b407950112b438bee86b88&fileId=db3a304412b407950112b438bf706b89; ComponentLink3Description: Package Specification; ComponentLink3URL: http://www.infineon.com/dgdl/IDP09E120_v2_3G%5B1%5D.pdf?folderId=db3a304314dca38901151224afae0c96&fileId=db3a30432313ff5e01237a7d849d7c11
footprint INF-PG-TO220-2-1 (FM, 2-Leads, Body 10x4.4mm, Pitch 5.08mm)
pins: 1 C, 2 A

## IDP09E120
designator D?
Fast Switching Diode, -55 to 150 degC, PG-TO220-2, Tube, Green; Manufacturer: Infineon; PartNumber: IDP09E120; Green: TRUE; IF (max): 23 A; IF (typ): 9 A; IF,SM (max): 50 A; IR (max): 100 uA; Irrm (typ): 13.3 A; Ptot (max): 69 W; Qrr (typ): 950 nC; RthJC (max): 1.8 K/W; Trr (typ): 140 ns; VF (typ): 1.65 V; DatasheetVersion: Rev. 2.3; PackageVersion: Rev. 01, 10/2008; PackageReference: PG-TO220-2-1; PackageDescription: 2-Pin Plastic (Green) Transistor Single Outline Package, Body 9.25 x 10 mm, Pitch 5.08 mm; Supplier 1: Mouser; Supplier Part Number 1: 726-IDP09E120; Supplier 2: Digi-Key; Supplier Part Number 2: IDP09E120-ND; Halogen-free: TRUE; Packing: Tube; Mounting Technology: Through Hole; ComponentLink1Description: Manufacturer URL; ComponentLink1URL: http://www.infineon.com/; ComponentLink2Description: Datasheet; ComponentLink2URL: http://www.infineon.com/dgdl/IDP09E120_v2_3G%5B1%5D.pdf?folderId=db3a304314dca38901151224afae0c96&fileId=db3a30432313ff5e01237a7d849d7c11; ComponentLink3Description: Package Specification; ComponentLink3URL: http://www.infineon.com/dgdl/IDP09E120_v2_3G%5B1%5D.pdf?folderId=db3a304314dca38901151224afae0c96&fileId=db3a30432313ff5e01237a7d849d7c11
footprint INF-PG-TO220-2-1 (FM, 2-Leads, Body 10x4.4mm, Pitch 5.08mm)
pins: 1 K, 2 A

## IDP12E120
designator D?
Fast Switching Diode, -55 to 150 degC, PG-TO220-2, Tube, Green; Manufacturer: Infineon; PartNumber: IDP12E120; Green: TRUE; IF (max): 28 A; IF (typ): 12 A; IF,SM (max): 63 A; IR (max): 100 uA; Irrm (typ): 17 A; Ptot (max): 96 W; Qrr (typ): 1,200 nC; RthJC (max): 1.3 K/W; Trr (typ): 150 ns; VF (typ): 1.65 V; DatasheetVersion: Rev. 2.3; PackageVersion: Rev. 01, 10/2008; PackageReference: PG-TO220-2-1; PackageDescription: 2-Pin Plastic (Green) Transistor Single Outline Package, Body 9.25 x 10 mm, Pitch 5.08 mm; Supplier 1: Mouser; Supplier Part Number 1: 726-IDP12E120; Supplier 2: Digi-Key; Supplier Part Number 2: IDP12E120-ND; Halogen-free: TRUE; Packing: Tube; Mounting Technology: Through Hole; ComponentLink1Description: Manufacturer URL; ComponentLink1URL: http://www.infineon.com/; ComponentLink2Description: Datasheet; ComponentLink2URL: http://www.infineon.com/dgdl/IDP12E120_v2_3G%5B1%5D.pdf?folderId=db3a304314dca38901151224afae0c96&fileId=db3a30432313ff5e012374c3dade485b; ComponentLink3Description: Package Specification; ComponentLink3URL: http://www.infineon.com/dgdl/IDP09E120_v2_3G%5B1%5D.pdf?folderId=db3a304314dca38901151224afae0c96&fileId=db3a30432313ff5e01237a7d849d7c11
footprint INF-PG-TO220-2-1 (FM, 2-Leads, Body 10x4.4mm, Pitch 5.08mm)
pins: 1 K, 2 A

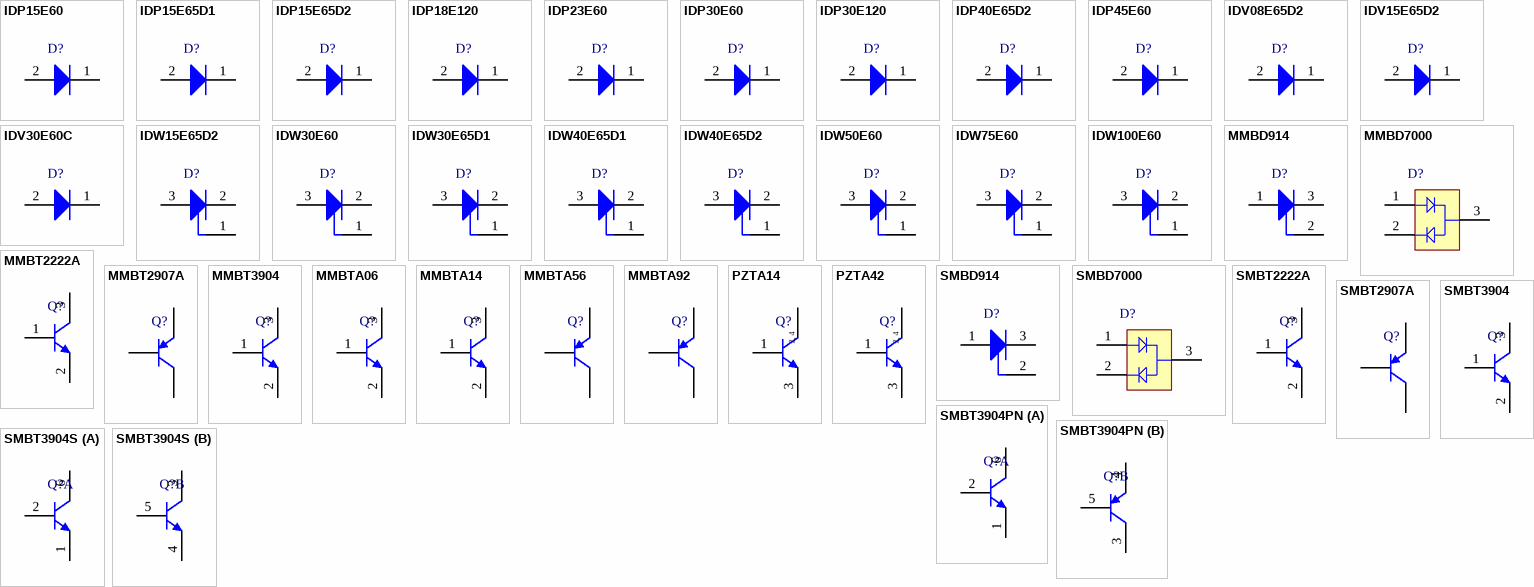
[diagram p9: symbols IDP15E60 to SMBT3904S]

## IDP15E60
designator D?
Fast EmCon Diode, -55 to 175 degC, PG-TO220-2-1, Tube, Green; Manufacturer: Infineon; PartNumber: IDP15E60; Green: TRUE; IF (max): 29.2 A; IF (typ): 15 A; IF,SM (max): 60 A; IR (max): 50 uA; Irrm (typ): 13.7 A; Ptot (max): 83.3 W; Qrr (typ): 595 nC; RthJC (max): 1.8 K/W; Trr (typ): 87 ns; VF (typ): 1.5 V; DatasheetVersion: Rev. 2.4; PackageVersion: Rev. 01, 10/2008; PackageReference: PG-TO220-2-1; PackageDescription: 2-Pin Plastic (Green) Transistor Single Outline Package, Body 9.25 x 10 mm, Pitch 5.08 mm; Supplier 1: Mouser; Supplier Part Number 1: 726-IDP15E60; Supplier 2: Newark; Supplier Part Number 2: 47W3448; Supplier 3: Farnell; Supplier Part Number 3: 2212802; Supplier 4: Digi-Key; Supplier Part Number 4: IDP15E60-ND; Halogen-free: TRUE; Packing: Tube; Mounting Technology: Through Hole; ComponentLink1Description: Manufacturer URL; ComponentLink1URL: http://www.infineon.com/; ComponentLink2Description: Datasheet; ComponentLink2URL: http://www.infineon.com/dgdl/IDP15E60_rev2_4G.pdf?folderId=db3a304314dca38901151224afae0c96&fileId=db3a30432313ff5e01237a0a55787bbc; ComponentLink3Description: Package Specification; ComponentLink3URL: http://www.infineon.com/dgdl/IDP09E120_v2_3G%5B1%5D.pdf?folderId=db3a304314dca38901151224afae0c96&fileId=db3a30432313ff5e01237a7d849d7c11
footprint INF-PG-TO220-2-1 (FM, 2-Leads, Body 10x4.4mm, Pitch 5.08mm)
pins: 1 K, 2 A

## IDP15E65D1
designator D?
Rapid Switching Emitter Controlled Diode, -40 to 175 degC, PG-TO220-2-1, Tube, Green; Manufacturer: Infineon; PartNumber: IDP15E65D1; Green: TRUE; IF (typ): 15 A; IF,SM (max): 120 A; IR (max): 40 uA; Irrm (typ): 3.4 A; Ptot (max): 92 W; Qrr (typ): 0.28 uC; RthJC (max): 1.64 K/W; Trr (typ): 114 ns; VF (typ): 1.35 V; DatasheetVersion: Rev. 1.1; PackageVersion: Rev. 01, 10/2008; PackageReference: PG-TO220-2-1; PackageDescription: 2-Pin Plastic (Green) Transistor Single Outline Package, Body 9.25 x 10 mm, Pitch 5.08 mm; Supplier 1: Newark; Supplier Part Number 1: 33X0388; Supplier 2: Farnell; Supplier Part Number 2: 2363265; Halogen-free: TRUE; Packing: Tube; Mounting Technology: Through Hole; ComponentLink1Description: Manufacturer URL; ComponentLink1URL: http://www.infineon.com/; ComponentLink2Description: Datasheet; ComponentLink2URL: http://www.infineon.com/dgdl/IDP15E65D1_1_1+%282%29.pdf?folderId=db3a304314dca38901151224afae0c96&fileId=db3a30433d68e984013d691402dd0153; ComponentLink3Description: Package Specification; ComponentLink3URL: http://www.infineon.com/dgdl/IDP09E120_v2_3G%5B1%5D.pdf?folderId=db3a304314dca38901151224afae0c96&fileId=db3a30432313ff5e01237a7d849d7c11
footprint INF-PG-TO220-2-1 (FM, 2-Leads, Body 10x4.4mm, Pitch 5.08mm)
pins: 1 K, 2 A

## IDP15E65D2
designator D?
Rapid Switching Emitter Controlled Diode, -40 to 175 degC, PG-TO220-2-1, Tube, Green; Manufacturer: Infineon; PartNumber: IDP15E65D2; Green: TRUE; IF (typ): 15 A; IF,SM (max): 100 A; IR (max): 40 uA; Irrm (typ): 3.3 A; Ptot (max): 92 W; Qrr (typ): 0.07 uC; RthJC (max): 1.63 K/W; Trr (typ): 47 ns; VF (typ): 1.6 V; DatasheetVersion: Rev. 1.1; PackageVersion: Rev. 01, 10/2008; PackageReference: PG-TO220-2-1; PackageDescription: 2-Pin Plastic (Green) Transistor Single Outline Package, Body 9.25 x 10 mm, Pitch 5.08 mm; Supplier 1: Newark; Supplier Part Number 1: 33X0389; Supplier 2: Farnell; Supplier Part Number 2: 2363266; Halogen-free: TRUE; Packing: Tube; Mounting Technology: Through Hole; ComponentLink1Description: Manufacturer URL; ComponentLink1URL: http://www.infineon.com/; ComponentLink2Description: Datasheet; ComponentLink2URL: http://www.infineon.com/dgdl/DS_IDP15E65D2_1_1.pdf?folderId=db3a304314dca38901151224afae0c96&fileId=db3a30433d68e984013d69679d8b06a0; ComponentLink3Description: Package Specification; ComponentLink3URL: http://www.infineon.com/dgdl/IDP09E120_v2_3G%5B1%5D.pdf?folderId=db3a304314dca38901151224afae0c96&fileId=db3a30432313ff5e01237a7d849d7c11
footprint INF-PG-TO220-2-1 (FM, 2-Leads, Body 10x4.4mm, Pitch 5.08mm)
pins: 1 K, 2 A

## IDP18E120
designator D?
Fast Switching Diode, -55 to 150 degC, PG-TO220-2-1, Tube, Green; Manufacturer: Infineon; PartNumber: IDP18E120; Green: TRUE; IF (max): 31 A; IF (typ): 18 A; IF,SM (max): 78 A; IR (max): 100 uA; Irrm (typ): 20.2 A; Ptot (max): 113 W; Qrr (typ): 1,880 nC; RthJC (max): 1.1 K/W; Trr (typ): 195 ns; VF (typ): 1.65 V; DatasheetVersion: Rev. 2.3; PackageVersion: Rev. 01, 10/2008; PackageReference: PG-TO220-2-1; PackageDescription: 2-Pin Plastic (Green) Transistor Single Outline Package, Body 9.25 x 10 mm, Pitch 5.08 mm; Supplier 1: Mouser; Supplier Part Number 1: 726-IDP18E120; Supplier 2: Digi-Key; Supplier Part Number 2: IDP18E120-ND; Halogen-free: TRUE; Packing: Tube; Mounting Technology: Through Hole; ComponentLink1Description: Manufacturer URL; ComponentLink1URL: http://www.infineon.com/; ComponentLink2Description: Datasheet; ComponentLink2URL: http://www.infineon.com/dgdl/IDP18E120_v2_3G%5B1%5D.pdf?folderId=db3a304314dca38901151224afae0c96&fileId=db3a30432313ff5e01237a90bd2b7c24; ComponentLink3Description: Package Specification; ComponentLink3URL: http://www.infineon.com/dgdl/IDP09E120_v2_3G%5B1%5D.pdf?folderId=db3a304314dca38901151224afae0c96&fileId=db3a30432313ff5e01237a7d849d7c11
footprint INF-PG-TO220-2-1 (FM, 2-Leads, Body 10x4.4mm, Pitch 5.08mm)
pins: 1 K, 2 A

## IDP23E60
designator D?
Fast Switching Diode, -55 to 175 degC, PG-TO220-2, Tube, Green; Manufacturer: Infineon; PartNumber: IDP23E60; Green: TRUE; IF (max): 41 A; IF (typ): 23 A; IF,SM (max): 89 A; IR (max): 50 uA; Irrm (typ): 17 A; Ptot (max): 115 W; Qrr (typ): 970 nC; RthJC (max): 1.3 K/W; Trr (typ): 120 ns; VF (typ): 1.5 V; DatasheetVersion: Rev. 2.4; PackageVersion: Rev. 01, 10/2008; PackageReference: PG-TO220-2-1; PackageDescription: 2-Pin Plastic (Green) Transistor Single Outline Package, Body 9.25 x 10 mm, Pitch 5.08 mm; Supplier 1: Mouser; Supplier Part Number 1: 726-IDP23E60; Supplier 2: Digi-Key; Supplier Part Number 2: IDP23E60-ND; Halogen-free: TRUE; Packing: Tube; Mounting Technology: Through Hole; ComponentLink1Description: Manufacturer URL; ComponentLink1URL: http://www.infineon.com/; ComponentLink2Description: Datasheet; ComponentLink2URL: http://www.infineon.com/dgdl/IDP23E60_rev2_4G.pdf?folderId=db3a304314dca38901151224afae0c96&fileId=db3a30432313ff5e01237a0fb1467bc1; ComponentLink3Description: Package Specification; ComponentLink3URL: http://www.infineon.com/dgdl/IDP09E120_v2_3G%5B1%5D.pdf?folderId=db3a304314dca38901151224afae0c96&fileId=db3a30432313ff5e01237a7d849d7c11
footprint INF-PG-TO220-2-1 (FM, 2-Leads, Body 10x4.4mm, Pitch 5.08mm)
pins: 1 K, 2 A

## IDP30E60
designator D?
Fast Switching Diode, -55 to 175 degC, PG-TO220-2-1, Tube, Green; Manufacturer: Infineon; PartNumber: IDP30E60; Green: TRUE; IF (max): 52.3 A; IF (typ): 30 A; IF,SM (max): 117 A; IR (max): 50 uA; Irrm (typ): 19 A; Ptot (max): 142.9 W; Qrr (typ): 1,100 nC; RthJC (max): 15 K/W; Trr (typ): 126 ns; VF (typ): 1.5 V; DatasheetVersion: Rev. 2.4; PackageVersion: Rev. 01, 10/2008; PackageReference: PG-TO220-2-1; PackageDescription: 2-Pin Plastic (Green) Transistor Single Outline Package, Body 9.25 x 10 mm, Pitch 5.08 mm; Supplier 1: Mouser; Supplier Part Number 1: 726-IDP30E60; Supplier 2: Digi-Key; Supplier Part Number 2: IDP30E60-ND; Halogen-free: TRUE; Packing: Tube; Mounting Technology: Through Hole; ComponentLink1Description: Manufacturer URL; ComponentLink1URL: http://www.infineon.com/; ComponentLink2Description: Datasheet; ComponentLink2URL: http://www.infineon.com/dgdl/IDP30E60_rev2_4G.pdf?folderId=db3a304314dca38901151224afae0c96&fileId=db3a30432313ff5e01237a4486497bd5; ComponentLink3Description: Package Specification; ComponentLink3URL: http://www.infineon.com/dgdl/IDP09E120_v2_3G%5B1%5D.pdf?folderId=db3a304314dca38901151224afae0c96&fileId=db3a30432313ff5e01237a7d849d7c11
footprint INF-PG-TO220-2-1 (FM, 2-Leads, Body 10x4.4mm, Pitch 5.08mm)
pins: 1 K, 2 A

## IDP30E120
designator D?
Fast Switching Diode, -55 to 150 degC, PG-TO220-2, Tube, Green; Manufacturer: Infineon; PartNumber: IDP30E120; Green: TRUE; IF (max): 50 A; IF (typ): 30 A; IF,SM (max): 102 A; IR (max): 100 uA; Irrm (typ): 23.7 A; Ptot (max): 138 W; Qrr (typ): 2,630 nC; RthJC (max): 0.9 K/W; Trr (typ): 243 ns; VF (typ): 1.65 V; DatasheetVersion: Rev. 2.3; PackageVersion: Rev. 01, 10/2008; PackageReference: PG-TO220-2-1; PackageDescription: 2-Pin Plastic (Green) Transistor Single Outline Package, Body 9.25 x 10 mm, Pitch 5.08 mm; Supplier 1: Mouser; Supplier Part Number 1: 726-IDP30E120; Supplier 2: Digi-Key; Supplier Part Number 2: IDP30E120-ND; Halogen-free: TRUE; Packing: Tube; Mounting Technology: Through Hole; ComponentLink1Description: Manufacturer URL; ComponentLink1URL: http://www.infineon.com/; ComponentLink2Description: Datasheet; ComponentLink2URL: http://www.infineon.com/dgdl/IDP30E120_v2_3G%5B1%5D.pdf?folderId=db3a304314dca38901151224afae0c96&fileId=db3a30432313ff5e01237a96f3a77c37; ComponentLink3Description: Package Specification; ComponentLink3URL: http://www.infineon.com/dgdl/IDP09E120_v2_3G%5B1%5D.pdf?folderId=db3a304314dca38901151224afae0c96&fileId=db3a30432313ff5e01237a7d849d7c11
footprint INF-PG-TO220-2-1 (FM, 2-Leads, Body 10x4.4mm, Pitch 5.08mm)
pins: 1 K, 2 A

## IDP40E65D2
designator D?
Rapid Switching Emitter Controlled Diode, -40 to 175 degC, PG-TO220-2-1, Tube, Green; Manufacturer: Infineon; PartNumber: IDP40E65D2; Green: TRUE; IF (typ): 40 A; IF,SM (max): 250 A; IR (max): 40 uA; Irrm (typ): 2.9 A; Ptot (max): 200 W; Qrr (typ): 0.13 uC; RthJC (max): 0.75 K/W; Trr (typ): 75 ns; VF (typ): 1.6 V; DatasheetVersion: Rev. 1.2; PackageVersion: Rev. 01, 10/2008; PackageReference: PG-TO220-2-1; PackageDescription: 2-Pin Plastic (Green) Transistor Single Outline Package, Body 9.25 x 10 mm, Pitch 5.08 mm; Supplier 1: Newark; Supplier Part Number 1: 33X0390; Supplier 2: Farnell; Supplier Part Number 2: 2363267; Halogen-free: TRUE; Packing: Tube; Mounting Technology: Through Hole; ComponentLink1Description: Manufacturer URL; ComponentLink1URL: http://www.infineon.com/; ComponentLink2Description: Datasheet; ComponentLink2URL: http://www.infineon.com/dgdl/DS_IDP40E65D2_1_2+%282%29.pdf?folderId=db3a304314dca38901151224afae0c96&fileId=db3a30433d68e984013d6d2dcfde1b1a; ComponentLink3Description: Package Specification; ComponentLink3URL: http://www.infineon.com/dgdl/IDP09E120_v2_3G%5B1%5D.pdf?folderId=db3a304314dca38901151224afae0c96&fileId=db3a30432313ff5e01237a7d849d7c11
footprint INF-PG-TO220-2-1 (FM, 2-Leads, Body 10x4.4mm, Pitch 5.08mm)
pins: 1 K, 2 A

## IDP45E60
designator D?
Fast Switching Diode, -55 to 175 degC, PG-TO220-2-2, Tube, Green; Manufacturer: Infineon; PartNumber: IDP45E60; Green: TRUE; IF (max): 71 A; IF (typ): 45 A; IF,SM (max): 162 A; IR (max): 50 uA; Irrm (typ): 23 A; Ptot (max): 187 W; Qrr (typ): 1,400 nC; RthJC (max): 0.8 K/W; Trr (typ): 140 ns; VF (typ): 1.5 V; DatasheetVersion: Rev. 2.4; PackageVersion: Rev. 01, 12/2009; PackageReference: PG-TO220-2-2; PackageDescription: 2-Pin Plastic (Green) Transistor Single Outline Package, Body 9.68 x 10.5 mm, Pitch 5.08 mm; Supplier 1: Mouser; Supplier Part Number 1: 726-IDP45E60; Supplier 2: Digi-Key; Supplier Part Number 2: IDP45E60-ND; Halogen-free: TRUE; Packing: Tube; Mounting Technology: Through Hole; ComponentLink1Description: Manufacturer URL; ComponentLink1URL: http://www.infineon.com/; ComponentLink2Description: Datasheet; ComponentLink2URL: http://www.infineon.com/dgdl/IDP45E60_rev2_4G.pdf?folderId=db3a304314dca38901151224afae0c96&fileId=db3a30432313ff5e01237a518c6e7be9; ComponentLink3Description: Package Specification; ComponentLink3URL: http://www.infineon.com/dgdl/IDV06S60C_2_0.pdf?folderId=db3a304314dca38901151224afae0c96&fileId=db3a304325afd6e001264bd38b060cca
footprint INF-PG-TO220-2-2 (FM, 2-Leads, Body 10.5x4.7mm, Pitch 5.08mm)
pins: 1 K, 2 A

## IDV08E65D2
designator D?
Rapid Switching Emitter Controlled Diode, -40 to 175 degC, PG-TO220-2, Tube, Green; Manufacturer: Infineon; PartNumber: IDV08E65D2; Green: TRUE; IF (typ): 8 A; IF,SM (max): 60 A; IR (max): 40 uA; Irrm (typ): 2.5 A; Ptot (max): 27.3 W; Qrr (typ): 0.08 uC; RthJC (max): 5.5 K/W; Trr (typ): 40 ns; VF (typ): 1.6 V; DatasheetVersion: Rev. 1.1; PackageVersion: Rev. 01, 12/2009; PackageReference: PG-TO220-2-22; PackageDescription: 2-Pin Plastic (Green) Transistor Single Outline Package, Body 9.68 x 10.5 mm, Pitch 5.08 mm; Supplier 1: Newark; Supplier Part Number 1: 33X0391; Supplier 2: Farnell; Supplier Part Number 2: 2363268; Halogen-free: TRUE; Packing: Tube; Mounting Technology: Through Hole; ComponentLink1Description: Manufacturer URL; ComponentLink1URL: http://www.infineon.com/; ComponentLink2Description: Datasheet; ComponentLink2URL: http://www.infineon.com/dgdl/DS_IDV08E65D2_1_1.pdf?folderId=db3a304314dca38901151224afae0c96&fileId=db3a30433d68e984013d6956ef27064a; ComponentLink3Description: Package Specification; ComponentLink3URL: http://www.infineon.com/dgdl/DS_IDV30E60C_2_1.pdf?folderId=db3a304314dca38901151224afae0c96&fileId=db3a30432a14dd54012a1d527a0d562d
footprint INF-PG-TO220-2-22 (FM, 2-Leads, Body 10.5x4.7mm, Pitch 5.08mm)
pins: 1 K, 2 A

## IDV15E65D2
designator D?
Rapid Switching Emitter Controlled Diode, -40 to 175 degC, PG-TO220-2, Tube, Green; Manufacturer: Infineon; PartNumber: IDV15E65D2; Green: TRUE; IF (typ): 15 A; IF,SM (max): 100 A; IR (max): 40 uA; Irrm (typ): 3.3 A; Ptot (max): 34 W; Qrr (typ): 0.07 uC; RthJC (max): 4.4 K/W; Trr (typ): 47 ns; VF (typ): 1.6 V; DatasheetVersion: Rev. 1.1; PackageVersion: Rev. 01, 12/2009; PackageReference: PG-TO220-2-22; PackageDescription: 2-Pin Plastic (Green) Transistor Single Outline Package, Body 9.68 x 10.5 mm, Pitch 5.08 mm; Supplier 1: Newark; Supplier Part Number 1: 33X0392; Supplier 2: Farnell; Supplier Part Number 2: 2363269; Halogen-free: TRUE; Packing: Tube; Mounting Technology: Through Hole; ComponentLink1Description: Manufacturer URL; ComponentLink1URL: http://www.infineon.com/; ComponentLink2Description: Datasheet; ComponentLink2URL: http://www.infineon.com/dgdl/DS_IDV15E65D2_1_1.pdf?folderId=db3a304314dca38901151224afae0c96&fileId=db3a30433d68e984013d68f5dac7001f; ComponentLink3Description: Package Specification; ComponentLink3URL: http://www.infineon.com/dgdl/DS_IDV30E60C_2_1.pdf?folderId=db3a304314dca38901151224afae0c96&fileId=db3a30432a14dd54012a1d527a0d562d
footprint INF-PG-TO220-2-22 (FM, 2-Leads, Body 10.5x4.7mm, Pitch 5.08mm)
pins: 1 K, 2 A

## IDV30E60C
designator D?
Fast Switching Emitter Controlled Diode, -40 to 175 degC, PG-TO220-2-22, Tube, Green; Manufacturer: Infineon; PartNumber: IDV30E60C; Green: TRUE; IF (max): 21 A; IF (typ): 12 A; IR (max): 40 uA; Irrm (typ): 16.9 A; Ptot (max): 37 W; Qrr (typ): 880 nC; RthJC (max): 4 K/W; Trr (typ): 130 ns; VF (typ): 1.65 V; DatasheetVersion: Rev. 2.1; PackageVersion: Rev. 01, 12/2009; PackageReference: PG-TO220-2-22; PackageDescription: 2-Pin Plastic (Green) Transistor Single Outline Package, Body 9.68 x 10.5 mm, Pitch 5.08 mm; Supplier 1: Mouser; Supplier Part Number 1: 726-IDV30E60C; Supplier 2: Digi-Key; Supplier Part Number 2: IDV30E60C-ND; Halogen-free: TRUE; Packing: Tube; Mounting Technology: Through Hole; ComponentLink1Description: Manufacturer URL; ComponentLink1URL: http://www.infineon.com/; ComponentLink2Description: Datasheet; ComponentLink2URL: http://www.infineon.com/dgdl/DS_IDV30E60C_2_1.pdf?folderId=db3a304314dca38901151224afae0c96&fileId=db3a30432a14dd54012a1d527a0d562d; ComponentLink3Description: Package Specification; ComponentLink3URL: http://www.infineon.com/dgdl/DS_IDV30E60C_2_1.pdf?folderId=db3a304314dca38901151224afae0c96&fileId=db3a30432a14dd54012a1d527a0d562d
footprint INF-PG-TO220-2-22 (FM, 2-Leads, Body 10.5x4.7mm, Pitch 5.08mm)
pins: 1 K, 2 A